# EAGLE library part MICROBUILDER_RASPBERRYPI_BPLUS (library HBPMouse)
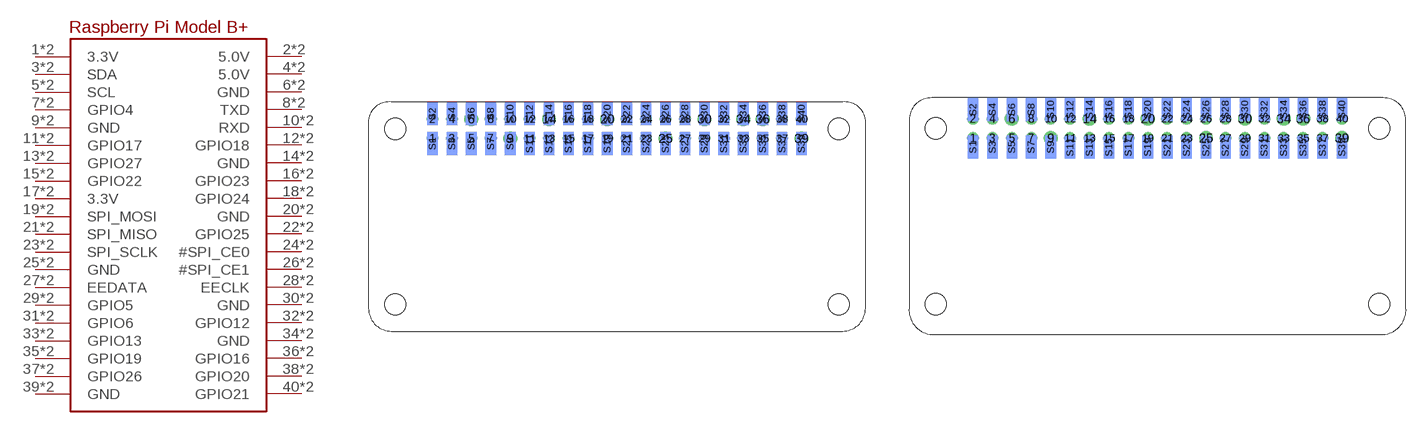
[diagram p7: symbol with the pads of MICROBUILDER_PI_BONNET_THMSMT; footprints MICROBUILDER_PI_BONNET_THMSMT, MICROBUILDER_PI_BONNET_THMSMT_WIDE]

Designator prefix RPI

## MICROBUILDER_RASPBERRYPI_BPLUSSMALL  [MICROBUILDER_PI_BONNET_THMSMT]
1  3.3V  sup
2  5.0V  sup
3  SDA
4  5.0V  sup
5  SCL
6  GND  sup
7  GPIO4
8  TXD
9  GND  pwr
10  RXD
11  GPIO17
12  GPIO18
13  GPIO27
14  GND  pwr
15  GPIO22
16  GPIO23
17  3.3V  sup
18  GPIO24
19  SPI_MOSI
20  GND  pwr
21  SPI_MISO
22  GPIO25
23  SPI_SCLK
24  #SPI_CE0
25  GND  pwr
26  #SPI_CE1
27  EEDATA
28  EECLK
29  GPIO5
30  GND  pwr
31  GPIO6
32  GPIO12
33  GPIO13
34  GND  pwr
35  GPIO19
36  GPIO16
37  GPIO26
38  GPIO20
39  GND  pwr
40  GPIO21
S1  3.3V  sup
S2  5.0V  sup
S3  SDA
S4  5.0V  sup
S5  SCL
S6  GND  sup
S7  GPIO4
S8  TXD
S9  GND  pwr
S10  RXD
S11  GPIO17
S12  GPIO18
S13  GPIO27
S14  GND  pwr
S15  GPIO22
S16  GPIO23
S17  3.3V  sup
S18  GPIO24
S19  SPI_MOSI
S20  GND  pwr
S21  SPI_MISO
S22  GPIO25
S23  SPI_SCLK
S24  #SPI_CE0
S25  GND  pwr
S26  #SPI_CE1
S27  EEDATA
S28  EECLK
S29  GPIO5
S30  GND  pwr
S31  GPIO6
S32  GPIO12
S33  GPIO13
S34  GND  pwr
S35  GPIO19
S36  GPIO16
S37  GPIO26
S38  GPIO20
S39  GND  pwr
S40  GPIO21

## MICROBUILDER_RASPBERRYPI_BPLUSWIDE  [MICROBUILDER_PI_BONNET_THMSMT_WIDE]
Pads as for MICROBUILDER_PI_BONNET_THMSMT

## Footprint MICROBUILDER_PI_BONNET_THMSMT (pad centres in mm)
drill 1 pad 1.4: 1 8.37,25.23; 2 8.37,27.77; 3 10.91,25.23; 4 10.91,27.77; 5 13.45,25.23; 7 15.99,25.23; 8 15.99,27.77; 10 18.53,27.77; 11 21.07,25.23; 12 21.07,27.77; 13 23.61,25.23; 15 26.15,25.23; 16 26.15,27.77; 17 28.69,25.23; 18 28.69,27.77; 19 31.23,25.23; 21 33.77,25.23; 22 33.77,27.77; 23 36.31,25.23; 24 36.31,27.77; 26 38.85,27.77; 27 41.39,25.23; 28 41.39,27.77; 29 43.93,25.23; 31 46.47,25.23; 32 46.47,27.77; 33 49.01,25.23; 35 51.55,25.23; 37 54.09,25.23; 38 54.09,27.77; 40 56.63,27.77
drill 1 pad 1.8: 6 13.45,27.77; 9 18.53,25.23; 14 23.61,27.77; 20 31.23,27.77; 25 38.85,25.23; 30 43.93,27.77; 34 49.01,27.77; 36 51.55,27.77; 39 56.63,25.23
smd 1.4 x 3 bottom: S1 8.37,24.539; S2 8.37,28.457; S3 10.91,24.539; S4 10.91,28.457; S5 13.45,24.539; S6 13.45,28.457; S7 15.99,24.539; S8 15.99,28.457; S9 18.53,24.539; S10 18.53,28.457; S11 21.07,24.539; S12 21.07,28.457; S13 23.61,24.539; S14 23.61,28.457; S15 26.15,24.539; S16 26.15,28.457; S17 28.69,24.539; S18 28.69,28.457; S19 31.23,24.539; S20 31.23,28.457; S21 33.77,24.539; S22 33.77,28.457; S23 36.31,24.539; S24 36.31,28.457; S25 38.85,24.539; S26 38.85,28.457; S27 41.39,24.539; S28 41.39,28.457; S29 43.93,24.539; S30 43.93,28.457; S31 46.47,24.539; S32 46.47,28.457; S33 49.01,24.539; S34 49.01,28.457; S35 51.55,24.539; S36 51.55,28.457; S37 54.09,24.539; S38 54.09,28.457; S39 56.63,24.539; S40 56.63,28.457
hole 2.8 at 3.5,26.5
hole 2.8 at 61.5,26.5
hole 2.8 at 61.5,3.5
hole 2.8 at 3.5,3.5

## Footprint MICROBUILDER_PI_BONNET_THMSMT_WIDE (pad centres in mm)
drill 1 pad 1.4: 1 8.37,25.23; 2 8.37,27.77; 3 10.91,25.23; 4 10.91,27.77; 5 13.45,25.23; 7 15.99,25.23; 8 15.99,27.77; 10 18.53,27.77; 11 21.07,25.23; 12 21.07,27.77; 13 23.61,25.23; 15 26.15,25.23; 16 26.15,27.77; 17 28.69,25.23; 18 28.69,27.77; 19 31.23,25.23; 21 33.77,25.23; 22 33.77,27.77; 23 36.31,25.23; 24 36.31,27.77; 26 38.85,27.77; 27 41.39,25.23; 28 41.39,27.77; 29 43.93,25.23; 31 46.47,25.23; 32 46.47,27.77; 33 49.01,25.23; 35 51.55,25.23; 37 54.09,25.23; 38 54.09,27.77; 40 56.63,27.77
drill 1 pad 1.8: 6 13.45,27.77; 9 18.53,25.23; 14 23.61,27.77; 20 31.23,27.77; 25 38.85,25.23; 30 43.93,27.77; 34 49.01,27.77; 36 51.55,27.77; 39 56.63,25.23
smd 1.4 x 3 bottom: S1 8.37,24.039; S2 8.37,28.957; S3 10.91,24.039; S4 10.91,28.957; S5 13.45,24.039; S6 13.45,28.957; S7 15.99,24.039; S8 15.99,28.957; S9 18.53,24.039; S10 18.53,28.957; S11 21.07,24.039; S12 21.07,28.957; S13 23.61,24.039; S14 23.61,28.957; S15 26.15,24.039; S16 26.15,28.957; S17 28.69,24.039; S18 28.69,28.957; S19 31.23,24.039; S20 31.23,28.957; S21 33.77,24.039; S22 33.77,28.957; S23 36.31,24.039; S24 36.31,28.957; S25 38.85,24.039; S26 38.85,28.957; S27 41.39,24.039; S28 41.39,28.957; S29 43.93,24.039; S30 43.93,28.957; S31 46.47,24.039; S32 46.47,28.957; S33 49.01,24.039; S34 49.01,28.957; S35 51.55,24.039; S36 51.55,28.957; S37 54.09,24.039; S38 54.09,28.957; S39 56.63,24.039; S40 56.63,28.957
hole 2.8 at 3.5,26.5
hole 2.8 at 61.5,26.5
hole 2.8 at 61.5,3.5
hole 2.8 at 3.5,3.5